# Altium schematic symbol library ERJ3EKF1003V.SchLib: 1 symbol
Pins are listed as number, name and electrical type; pins without a type are passive.

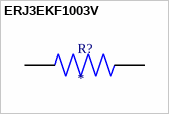
[diagram p0: symbol ERJ3EKF1003V]

## ERJ3EKF1003V
designator R?
Res Thick Film 0603 100K Ohm 1% 0.1W(1/10W) 100ppm/C Pad SMD Automotive T/R; MF: Panasonic; MP: ERJ-3EKF1003V; SnapEDA_Link: https://www.snapeda.com/parts/ERJ-3EKF1003V/Panasonic+Electronic+Components/view-part/?ref=snap; Package: 1608-2 Panasonic; Value: *; Check_prices: https://www.snapeda.com/parts/ERJ-3EKF1003V/Panasonic+Electronic+Components/view-part/?ref=eda
footprint RES_ERJ3EKF1003V
pins: 1, 2